# EAGLE library part VS1005_BOB (library vlsi-web-e7)
VS1005 Breakout board.
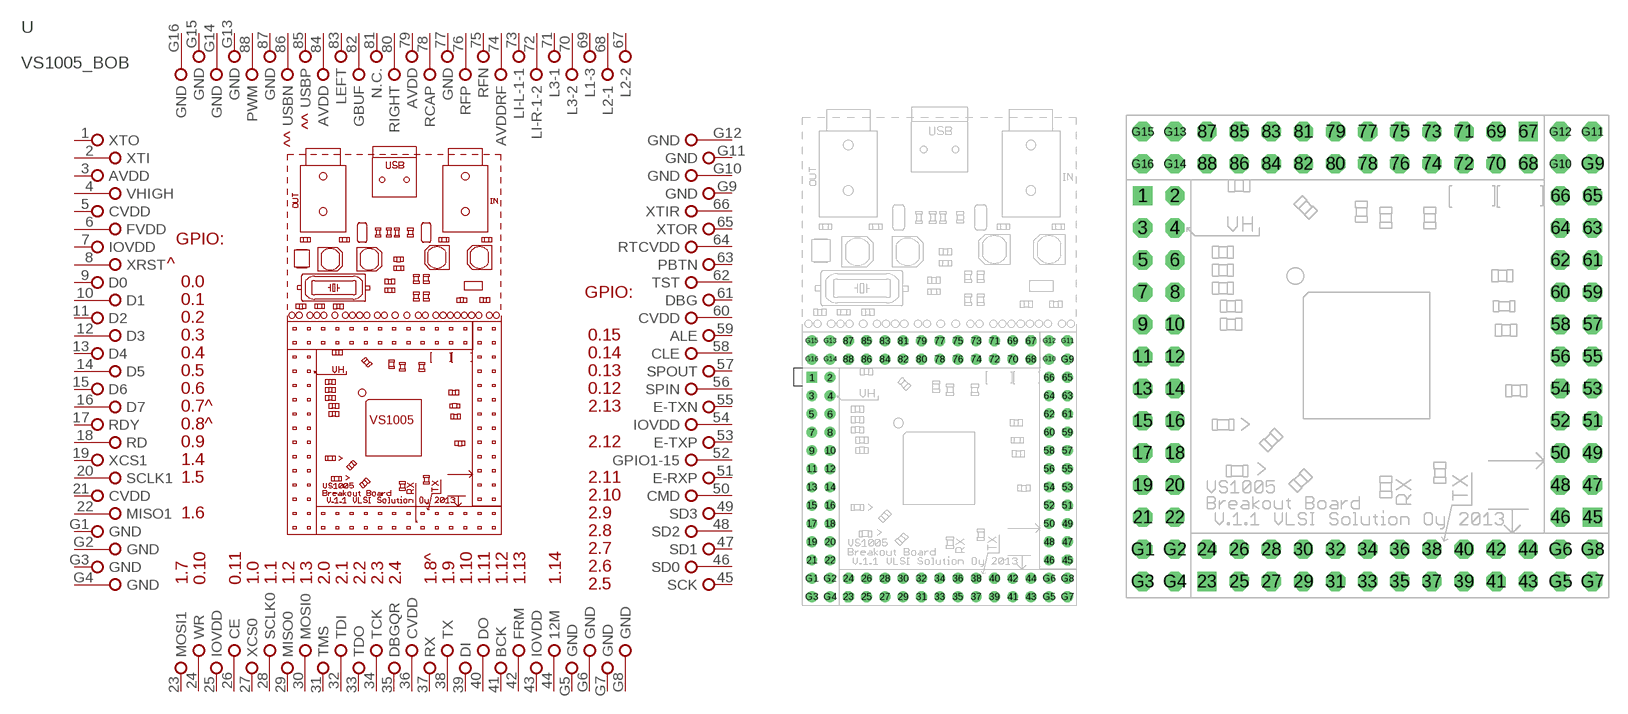
[diagram p9: symbol with the pads of VS1005-BOB-PKG; footprints VS1005-BOB-PKG, VS1005-BOB-S-PKG]

Designator prefix -

## VS1005_BOB-F  [VS1005-BOB-PKG]
1  XTO  pas
2  XTI  pas
3  AVDD  pas
4  VHIGH  pas
5  CVDD  pas
6  FVDD  pas
7  IOVDD  pas
8  XRST  pas
9  D0  pas
10  D1  pas
11  D2  pas
12  D3  pas
13  D4  pas
14  D5  pas
15  D6  pas
16  D7  pas
17  RDY  pas
18  RD  pas
19  XCS1  pas
20  SCLK1  pas
21  CVDD  pas
22  MISO1  pas
23  MOSI1  pas
24  WR  pas
25  IOVDD  pas
26  CE  pas
27  XCS0  pas
28  SCLK0  pas
29  MISO0  pas
30  MOSI0  pas
31  TMS  pas
32  TDI  pas
33  TDO  pas
34  TCK  pas
35  DBGQR  pas
36  CVDD  pas
37  RX  pas
38  TX  pas
39  DI  pas
40  DO  pas
41  BCK  pas
42  FRM  pas
43  IOVDD  pas
44  12M  pas
45  SCK  pas
46  SD0  pas
47  SD1  pas
48  SD2  pas
49  SD3  pas
50  CMD  pas
51  E-RXP  pas
52  GPIO1-15  pas
53  E-TXP  pas
54  IOVDD  pas
55  E-TXN  pas
56  SPIN  pas
57  SPOUT  pas
58  CLE  pas
59  ALE  pas
60  CVDD  pas
61  DBG  pas
62  TST  pas
63  PBTN  pas
64  RTCVDD  pas
65  XTOR  pas
66  XTIR  pas
67  L2-2  pas
68  L2-1  pas
69  L1-3  pas
70  L3-2  pas
71  L3-1  pas
72  LI-R-1-2  pas
73  LI-L-1-1  pas
74  AVDDRF  pas
75  RFN  pas
76  RFP  pas
77  GND  pas
78  RCAP  pas
79  AVDD  pas
80  RIGHT  pas
81  N.C.  pas
82  GBUF  pas
83  LEFT  pas
84  AVDD  pas
85  USBP  pas
86  USBN  pas
87  GND  pas
88  PWM  pas
G1  GND  pas
G2  GND  pas
G3  GND  pas
G4  GND  pas
G5  GND  pas
G6  GND  pas
G7  GND  pas
G8  GND  pas
G9  GND  pas
G10  GND  pas
G11  GND  pas
G12  GND  pas
G13  GND  pas
G14  GND  pas
G15  GND  pas
G16  GND  pas

## VS1005_BOB-S  [VS1005-BOB-S-PKG]
Pads as for VS1005-BOB-PKG

## Footprint VS1005-BOB-PKG (pad centres in mm)
PCB footprint for full VS1005 Breakout board.
drill 1 square: 1 0,0
drill 1: 2 2.54,0; 3 0,-2.54; 4 2.54,-2.54; 5 0,-5.08; 6 2.54,-5.08; 7 0,-7.62; 8 2.54,-7.62; 9 0,-10.16; 10 2.54,-10.16; 11 0,-12.7; 12 2.54,-12.7; 13 0,-15.24; 14 2.54,-15.24; 15 0,-17.78; 16 2.54,-17.78; 17 0,-20.32; 18 2.54,-20.32; 19 0,-22.86; 20 2.54,-22.86; 21 0,-25.4; 22 2.54,-25.4; 24 5.08,-27.94; 25 7.62,-30.48; 26 7.62,-27.94; 27 10.16,-30.48; 28 10.16,-27.94; 29 12.7,-30.48; 30 12.7,-27.94; 31 15.24,-30.48; 32 15.24,-27.94; 33 17.78,-30.48; 34 17.78,-27.94; 35 20.32,-30.48; 36 20.32,-27.94; 37 22.86,-30.48; 38 22.86,-27.94; 39 25.4,-30.48; 40 25.4,-27.94; 41 27.94,-30.48; 42 27.94,-27.94; 43 30.48,-30.48; 44 30.48,-27.94; 46 33.02,-25.4; 47 35.56,-22.86; 48 33.02,-22.86; 49 35.56,-20.32; 50 33.02,-20.32; 51 35.56,-17.78; 52 33.02,-17.78; 53 35.56,-15.24; 54 33.02,-15.24; 55 35.56,-12.7; 56 33.02,-12.7; 57 35.56,-10.16; 58 33.02,-10.16; 59 35.56,-7.62; 60 33.02,-7.62; 61 35.56,-5.08; 62 33.02,-5.08; 63 35.56,-2.54; 64 33.02,-2.54; 65 35.56,0; 66 33.02,0; 68 30.48,2.54; 69 27.94,5.08; 70 27.94,2.54; 71 25.4,5.08; 72 25.4,2.54; 73 22.86,5.08; 74 22.86,2.54; 75 20.32,5.08; 76 20.32,2.54; 77 17.78,5.08; 78 17.78,2.54; 79 15.24,5.08; 80 15.24,2.54; 81 12.7,5.08; 82 12.7,2.54; 83 10.16,5.08; 84 10.16,2.54; 85 7.62,5.08; 86 7.62,2.54; 87 5.08,5.08; 88 5.08,2.54; G1 0,-27.94; G2 2.54,-27.94; G3 0,-30.48; G4 2.54,-30.48; G5 33.02,-30.48; G6 33.02,-27.94; G7 35.56,-30.48; G8 35.56,-27.94; G9 35.56,2.54; G10 33.02,2.54; G11 35.56,5.08; G12 33.02,5.08; G13 2.54,5.08; G14 2.54,2.54; G15 0,5.08; G16 0,2.54
drill 1 octagon: 23 5.08,-30.48; 45 35.56,-25.4; 67 30.48,5.08

## Footprint VS1005-BOB-S-PKG (pad centres in mm)
PCB footprint for simple VS1005 Breakout board.
drill 1.016 square: 1 0,0; 23 5.08,-30.48; 45 35.56,-25.4; 67 30.48,5.08
drill 1.016 octagon: 2 2.54,0; 3 0,-2.54; 4 2.54,-2.54; 5 0,-5.08; 6 2.54,-5.08; 7 0,-7.62; 8 2.54,-7.62; 9 0,-10.16; 10 2.54,-10.16; 11 0,-12.7; 12 2.54,-12.7; 13 0,-15.24; 14 2.54,-15.24; 15 0,-17.78; 16 2.54,-17.78; 17 0,-20.32; 18 2.54,-20.32; 19 0,-22.86; 20 2.54,-22.86; 21 0,-25.4; 22 2.54,-25.4; 24 5.08,-27.94; 25 7.62,-30.48; 26 7.62,-27.94; 27 10.16,-30.48; 28 10.16,-27.94; 29 12.7,-30.48; 30 12.7,-27.94; 31 15.24,-30.48; 32 15.24,-27.94; 33 17.78,-30.48; 34 17.78,-27.94; 35 20.32,-30.48; 36 20.32,-27.94; 37 22.86,-30.48; 38 22.86,-27.94; 39 25.4,-30.48; 40 25.4,-27.94; 41 27.94,-30.48; 42 27.94,-27.94; 43 30.48,-30.48; 44 30.48,-27.94; 46 33.02,-25.4; 47 35.56,-22.86; 48 33.02,-22.86; 49 35.56,-20.32; 50 33.02,-20.32; 51 35.56,-17.78; 52 33.02,-17.78; 53 35.56,-15.24; 54 33.02,-15.24; 55 35.56,-12.7; 56 33.02,-12.7; 57 35.56,-10.16; 58 33.02,-10.16; 59 35.56,-7.62; 60 33.02,-7.62; 61 35.56,-5.08; 62 33.02,-5.08; 63 35.56,-2.54; 64 33.02,-2.54; 65 35.56,0; 66 33.02,0; 68 30.48,2.54; 69 27.94,5.08; 70 27.94,2.54; 71 25.4,5.08; 72 25.4,2.54; 73 22.86,5.08; 74 22.86,2.54; 75 20.32,5.08; 76 20.32,2.54; 77 17.78,5.08; 78 17.78,2.54; 79 15.24,5.08; 80 15.24,2.54; 81 12.7,5.08; 82 12.7,2.54; 83 10.16,5.08; 84 10.16,2.54; 85 7.62,5.08; 86 7.62,2.54; 87 5.08,5.08; 88 5.08,2.54; G1 0,-27.94; G2 2.54,-27.94; G3 0,-30.48; G4 2.54,-30.48; G5 33.02,-30.48; G6 33.02,-27.94; G7 35.56,-30.48; G8 35.56,-27.94; G9 35.56,2.54; G10 33.02,2.54; G11 35.56,5.08; G12 33.02,5.08; G13 2.54,5.08; G14 2.54,2.54; G15 0,5.08; G16 0,2.54